# EAGLE library part PCIE-X1-* (library PCI Express)
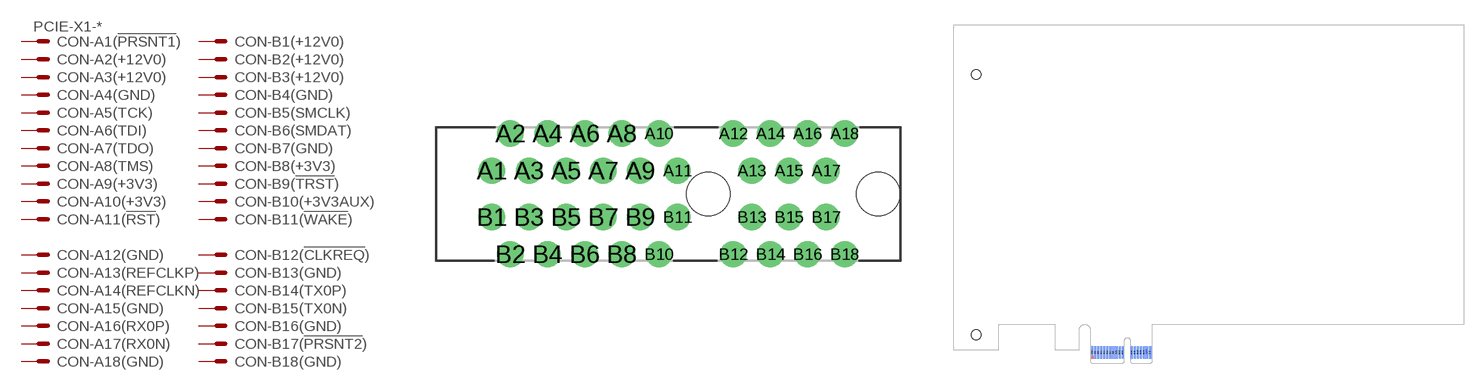
[diagram p0: symbol with the pads of PCIE-X1-SKT; footprints PCIE-X1-SKT, PCIE-X1-EDGE]

Designator prefix CON; gates -A1(!PRSNT1!)=KV -A2(+12V0)=K -A3(+12V0)=K -A4(GND)=K -A5(TCK)=K -A6(TDI)=K -A7(TDO)=K -A8(TMS)=K -A9(+3V3)=K -A10(+3V3)=K -A11(!RST!)=K -A12(GND)=K -A13(REFCLKP)=K -A14(REFCLKN)=K -A15(GND)=K -A16(RX0P)=K -A17(RX0N)=K -A18(GND)=K -B1(+12V0)=K -B2(+12V0)=K -B3(+12V0)=K -B4(GND)=K -B5(SMCLK)=K -B6(SMDAT)=K -B7(GND)=K -B8(+3V3)=K -B9(!TRST!)=K -B10(+3V3AUX)=K -B11(!WAKE!)=K -B12(!CLKREQ!)=K -B13(GND)=K -B14(TX0P)=K -B15(TX0N)=K -B16(GND)=K -B17(!PRSNT2!)=K -B18(GND)=K

## PCIE-X1-SKT  [PCIE-X1-SKT]
A1  -A1(!PRSNT1!):S  pas
A2  -A2(+12V0):S  pas
A3  -A3(+12V0):S  pas
A4  -A4(GND):S  pas
A5  -A5(TCK):S  pas
A6  -A6(TDI):S  pas
A7  -A7(TDO):S  pas
A8  -A8(TMS):S  pas
A9  -A9(+3V3):S  pas
A10  -A10(+3V3):S  pas
A11  -A11(!RST!):S  pas
A12  -A12(GND):S  pas
A13  -A13(REFCLKP):S  pas
A14  -A14(REFCLKN):S  pas
A15  -A15(GND):S  pas
A16  -A16(RX0P):S  pas
A17  -A17(RX0N):S  pas
A18  -A18(GND):S  pas
B1  -B1(+12V0):S  pas
B2  -B2(+12V0):S  pas
B3  -B3(+12V0):S  pas
B4  -B4(GND):S  pas
B5  -B5(SMCLK):S  pas
B6  -B6(SMDAT):S  pas
B7  -B7(GND):S  pas
B8  -B8(+3V3):S  pas
B9  -B9(!TRST!):S  pas
B10  -B10(+3V3AUX):S  pas
B11  -B11(!WAKE!):S  pas
B12  -B12(!CLKREQ!):S  pas
B13  -B13(GND):S  pas
B14  -B14(TX0P):S  pas
B15  -B15(TX0N):S  pas
B16  -B16(GND):S  pas
B17  -B17(!PRSNT2!):S  pas
B18  -B18(GND):S  pas

## PCIE-X1-EDGE  [PCIE-X1-EDGE]
Pads as for PCIE-X1-SKT

## Footprint PCIE-X1-SKT (pad centres in mm)
PCIE-36 way socket
drill 0.7 pad 1.422: A1 -11.65,1.25; A2 -10.65,3.25; A3 -9.65,1.25; A4 -8.65,3.25; A5 -7.65,1.25; A6 -6.65,3.25; A7 -5.65,1.25; A8 -4.65,3.25; A9 -3.65,1.25; A10 -2.65,3.25; A11 -1.65,1.25; A12 1.35,3.25; A13 2.35,1.25; A14 3.35,3.25; A15 4.35,1.25; A16 5.35,3.25; A17 6.35,1.25; A18 7.35,3.25; B1 -11.65,-1.25; B2 -10.65,-3.25; B3 -9.65,-1.25; B4 -8.65,-3.25; B5 -7.65,-1.25; B6 -6.65,-3.25; B7 -5.65,-1.25; B8 -4.65,-3.25; B9 -3.65,-1.25; B10 -2.65,-3.25; B11 -1.65,-1.25; B12 1.35,-3.25; B13 2.35,-1.25; B14 3.35,-3.25; B15 4.35,-1.25; B16 5.35,-3.25; B17 6.35,-1.25; B18 7.35,-3.25
hole 2.35 at 0,0
hole 2.35 at 9.15,0

## Footprint PCIE-X1-EDGE (pad centres in mm)
PCI-E 36-way edge connector
smd 0.7 x 3.2 bottom: A1 -11.5,-4.4
smd 0.7 x 4.2 bottom: A2 -10.5,-4.9; A3 -9.5,-4.9; A4 -8.5,-4.9; A5 -7.5,-4.9; A6 -6.5,-4.9; A7 -5.5,-4.9; A8 -4.5,-4.9; A9 -3.5,-4.9; A10 -2.5,-4.9; A11 -1.5,-4.9; A12 1.5,-4.9; A13 2.5,-4.9; A14 3.5,-4.9; A15 4.5,-4.9; A16 5.5,-4.9; A17 6.5,-4.9; A18 7.5,-4.9
smd 0.7 x 4.2: B1 -11.5,-4.9; B2 -10.5,-4.9; B3 -9.5,-4.9; B4 -8.5,-4.9; B5 -7.5,-4.9; B6 -6.5,-4.9; B7 -5.5,-4.9; B8 -4.5,-4.9; B9 -3.5,-4.9; B10 -2.5,-4.9; B11 -1.5,-4.9; B12 1.5,-4.9; B13 2.5,-4.9; B14 3.5,-4.9; B15 4.5,-4.9; B16 5.5,-4.9; B18 7.5,-4.9
smd 0.7 x 3.2: B17 6.5,-4.4
hole 3.18 at -49.65,0.95
hole 3.18 at -49.65,86.35